# Altium schematic symbol library Engenuics Blade Schematic Library.SchLib: 4 symbols
Pins are listed as number, name and electrical type; pins without a type are passive.

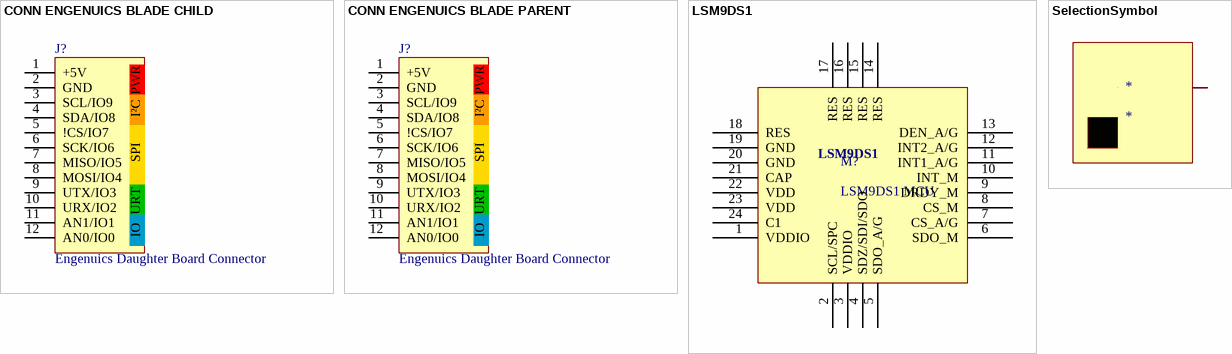
[diagram p0: symbols CONN ENGENUICS BLADE CHILD to SelectionSymbol]

## CONN ENGENUICS BLADE CHILD
designator J?, comment Engenuics Daughter Board Connector
2. Manufacturer: FCI; 3. Manufacturer Part Number: 68016-412HLF; 1. Description: CONN HEADER 12POS .100 R/A TIN; 7. Modified By: JRL; 4. Digi-Key Part Number: 609-3330-ND; 5. Internal Part Number: *; 6. Last Modified: July 2, 2010
footprint HDR1X12 ENGENUICS CHILD
pins: 1 +5V, 2 GND, 3 SCL/IO9, 4 SDA/IO8, 5 !CS/IO7, 6 SCK/IO6, 7 MISO/IO5, 8 MOSI/IO4, 9 UTX/IO3, 10 URX/IO2, 11 AN1/IO1, 12 AN0/IO0
text: PWR; I²C; SPI; URT; IO

## CONN ENGENUICS BLADE PARENT
designator J?, comment Engenuics Daughter Board Connector
2. Manufacturer: Sullins; 3. Manufacturer Part Number: PPTC121LGBN-RC; 1. Description: CONN FEMALE 12POS .100" R/A TIN; 7. Modified By: JRL; 4. Digi-Key Part Number: S5448-ND; 5. Internal Part Number: *; 6. Last Modified: July 2, 2010
footprint HDR1X12 ENGENUICS PARENT
pins: 1 +5V, 2 GND, 3 SCL/IO9, 4 SDA/IO8, 5 !CS/IO7, 6 SCK/IO6, 7 MISO/IO5, 8 MOSI/IO4, 9 UTX/IO3, 10 URX/IO2, 11 AN1/IO1, 12 AN0/IO0
text: PWR; I²C; SPI; URT; IO

## LSM9DS1
designator M?, comment LSM9DS1 MCU
Manufacturer Part Number: LSM9DS1TR; Manufacturer: STMicroelectronics; Digi-Key Part Number: 497-14946-1-ND; Last Modified: 2018-12-08; Modified By: Bud Wandinger
footprint LSM9DS3
pins: 1 VDDIO, 2 SCL/SPC, 3 VDDIO, 4 SDZ/SDI/SDO, 5 SDO_A/G, 6 SDO_M, 7 CS_A/G, 8 CS_M, 9 DRDY_M, 10 INT_M, 11 INT1_A/G, 12 INT2_A/G, 13 DEN_A/G, 14 RES, 15 RES, 16 RES, 17 RES, 18 RES, 19 GND, 20 GND, 21 CAP, 22 VDD, 23 VDD, 24 C1

## SelectionSymbol
designator *